# Altium schematic symbol library LT1115CN8#PBF.SchLib: 1 symbol
Pins are listed as number, name and electrical type; pins without a type are passive.

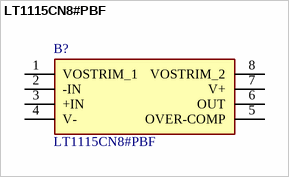
[diagram p0: symbol LT1115CN8#PBF]

## LT1115CN8#PBF
designator B?
OP Amp Single GP +/-22V 8-Pin PDIP N; Manufacturer_Name: Analog Devices; Geometry.Height: 3.937mm; Mouser Part Number: 584-LT1115CN8#PBF; Mouser Price/Stock: https://www.mouser.co.uk/ProductDetail/Analog-Devices/LT1115CN8PBF?qs=ytflclh7QUWk8x4PZzUG3w%3D%3D; Manufacturer_Part_Number: LT1115CN8#PBF; Datasheet Link: https://www.arrow.com/en/products/lt1115cn8pbf/linear-technology
footprint DIP794W53P254L1016H394Q8N
pins: 1 VOSTRIM_1, 2 -IN, 3 +IN, 4 V-, 5 OVER-COMP, 6 OUT, 7 V+, 8 VOSTRIM_2